# Altium schematic symbol library M20-7820642.SchLib: 1 symbol
Pins are listed as number, name and electrical type; pins without a type are passive.

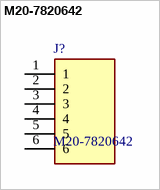
[diagram p0: symbol M20-7820642]

## M20-7820642
designator J?
HARWIN - M20-7820642 - Board-To-Board Connector, 2.54 mm, 6 Contacts, Receptacle, M20 Series, Through Hole, 1 Rows; Geometry.Height: 8.65mm; Manufacturer_Name: Harwin; Manufacturer_Part_Number: M20-7820642; Mouser Part Number: 855-M20-7820642; Mouser Price/Stock: https://www.mouser.co.uk/ProductDetail/Harwin/M20-7820642?qs=WS5Jv%252B%252Bx1qVj9bOS6VTo9g%3D%3D; Arrow Part Number: *; Arrow Price/Stock: *; Datasheet Link: https://cdn.harwin.com/pdfs/M20-782.pdf
footprint RHDR6W70P0X254_1X6_1564X250X865P
pins: 1, 2, 3, 4, 5, 6